# Altium schematic symbol library NRF21540-QDAA-R.SchLib: 2 symbols
Pins are listed as number, name and electrical type; pins without a type are passive.

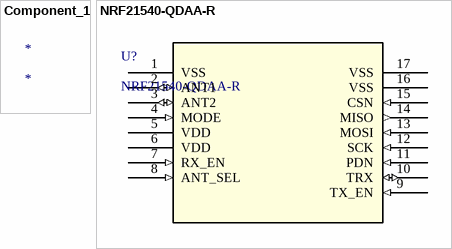
[diagram p0: symbols Component_1 to NRF21540-QDAA-R]

## Component_1
designator *

## NRF21540-QDAA-R
designator U?
No Description Available; Manufacturer_Name: Nordic Semiconductor; Copyright: Copyright (C) 2025 Ultra Librarian. All rights reserved.; Manufacturer_Part_Number: NRF21540-QDAA-R; RefDes: RefDes; Type: Type
footprint QFN16_4X4_NOR
pins: 1 VSS (power), 2 ANT1 (io), 3 ANT2 (io), 4 MODE (in), 5 VDD (power), 6 VDD (power), 7 RX_EN (in), 8 ANT_SEL (in), 9 TX_EN (in), 10 TRX (io), 11 PDN (in), 12 SCK (in), 13 MOSI (in), 14 MISO (out), 15 CSN (in), 16 VSS (power), 17 VSS (power)